# Altium footprint library Connector_Phoenix_MSTB.PcbLib: 180 footprints (part 6 of 12)
Each footprint in its own frame and in the unit in brackets; x right, y up, seen from the top. Pads: shape width x height; smd on the part's side, far side on the other; paste and mask are expansions set on the pad; w line width, h text height; cw(c..) or ccw(c..) is an arc to the next point about the centre after c.
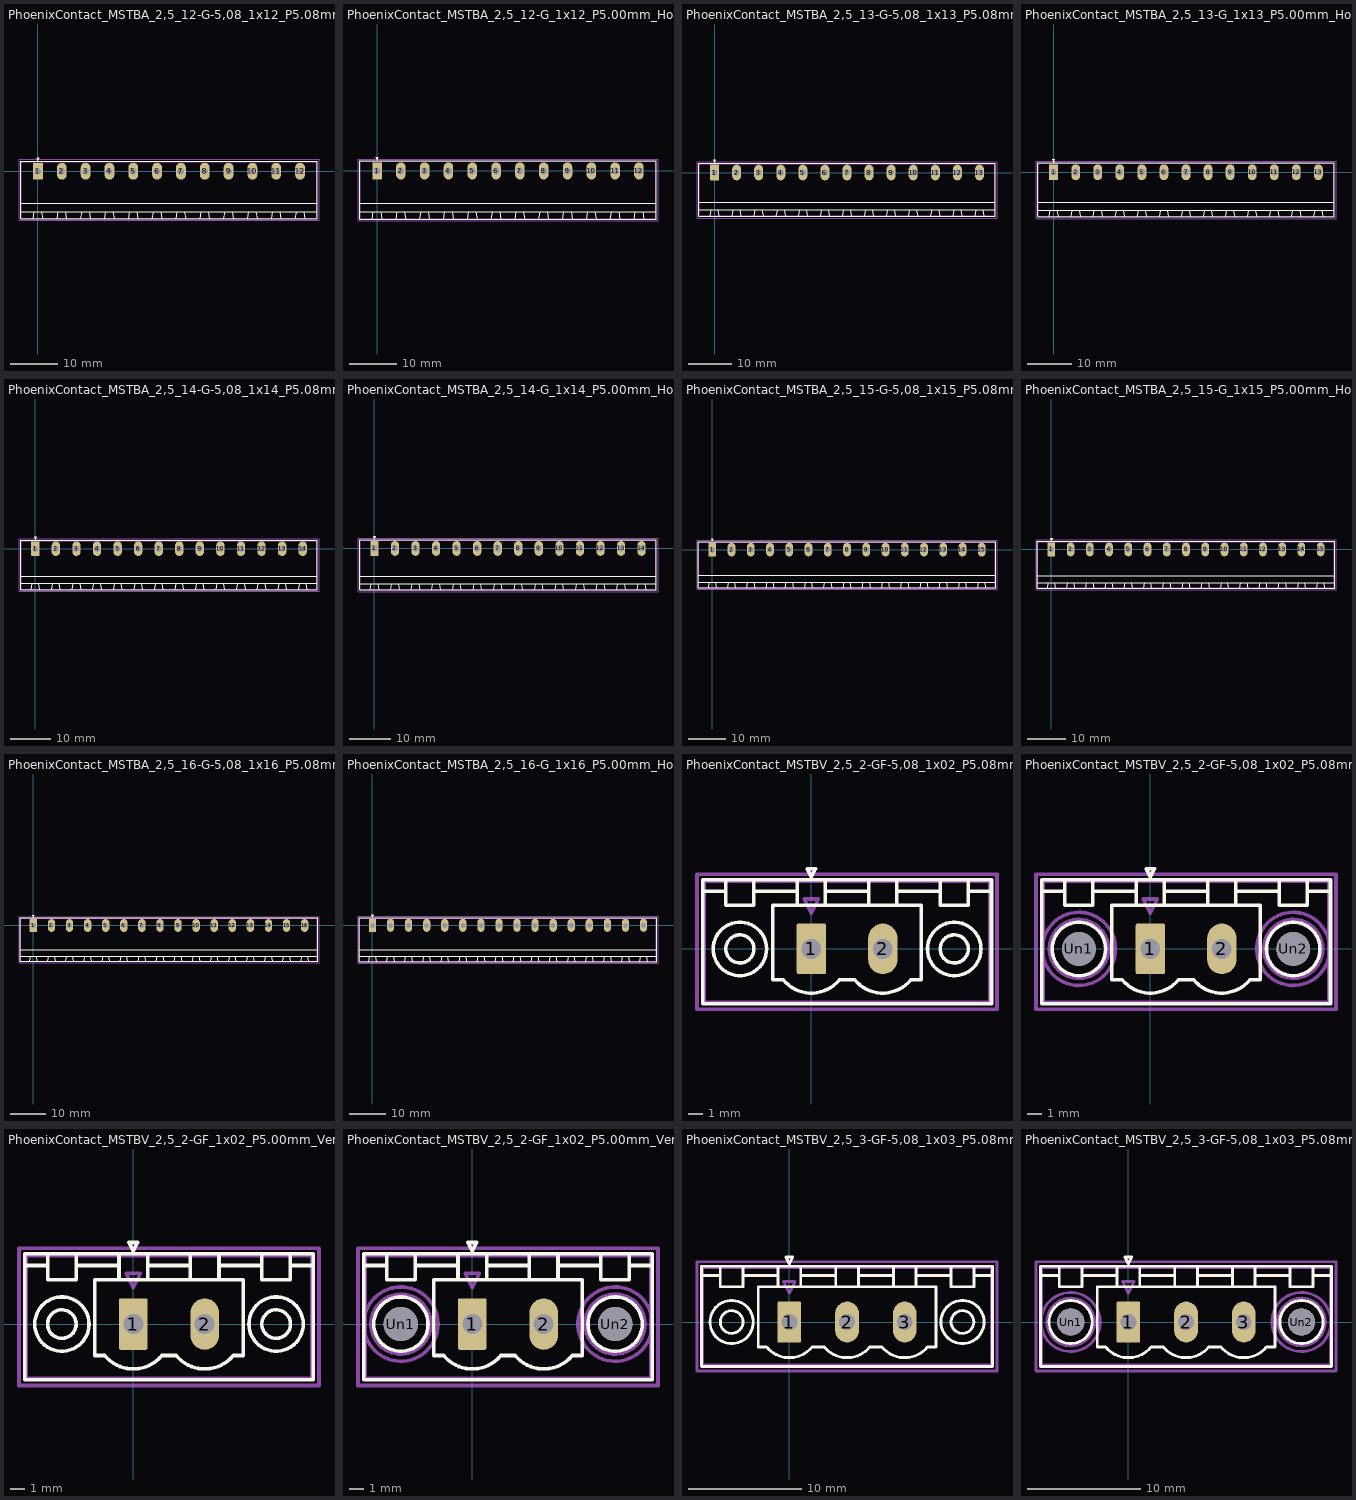
[diagram p5: the footprints below, top view; thin cyan lines are the x and y axes]

## PhoenixContact_MSTBA_2,5_12-G-5,08_1x12_P5.08mm_Horizontal [mm]
pads (12):
  rrect12% 2.08x3.6 hole 1.4: 1(0,0)
  rrect100% 2.08x3.6 hole 1.4: 2(5.08,0) 3(10.16,0) 4(15.24,0) 5(20.32,0) 6(25.4,0) 7(30.48,0) 8(35.56,0) 9(40.64,0) 10(45.72,0) 11(50.8,0) 12(55.88,0)
F.SilkS:
  lines w0.254: -3.65,-10.11 59.53,-10.11 59.53,2.11 -3.65,2.11 -3.65,-10.11 ; -3.65,-8.61 59.53,-8.61 59.53,-6.81 -3.65,-6.81 -3.65,-8.61 ; -1,-10.11 -0.75,-8.61 0.75,-8.61 1,-10.11 -1,-10.11 ; -0.3,2.91 0,2.31 0.3,2.91 -0.3,2.91 ; 4.08,-10.11 4.33,-8.61 5.83,-8.61 6.08,-10.11 4.08,-10.11 ; 9.16,-10.11 9.41,-8.61 10.91,-8.61 11.16,-10.11 9.16,-10.11 ; 14.24,-10.11 14.49,-8.61 15.99,-8.61 16.24,-10.11 14.24,-10.11 ; 19.32,-10.11 19.57,-8.61 21.07,-8.61 21.32,-10.11 19.32,-10.11 ; 24.4,-10.11 24.65,-8.61 26.15,-8.61 26.4,-10.11 24.4,-10.11 ; 29.48,-10.11 29.73,-8.61 31.23,-8.61 31.48,-10.11 29.48,-10.11 ; 34.56,-10.11 34.81,-8.61 36.31,-8.61 36.56,-10.11 34.56,-10.11 ; 39.64,-10.11 39.89,-8.61 41.39,-8.61 41.64,-10.11 39.64,-10.11 ; 44.72,-10.11 44.97,-8.61 46.47,-8.61 46.72,-10.11 44.72,-10.11 ; 49.8,-10.11 50.05,-8.61 51.55,-8.61 51.8,-10.11 49.8,-10.11 ; 54.88,-10.11 55.13,-8.61 56.63,-8.61 56.88,-10.11 54.88,-10.11
Top Assembly:
  lines w0.254: -0.95,2 0,0.5 0.95,2 ; -3.54,-10 59.42,-10 59.42,2 -3.54,2 -3.54,-10
  text "'.Designator'" at 23.893,0.46 h1
Top Courtyard:
  lines w0.254: -4.04,-10.5 59.92,-10.5 59.92,2.5 -4.04,2.5 -4.04,-10.5
Top Designator:
  text ".Designator" at 20.322,-4.303 h1.52

## PhoenixContact_MSTBA_2,5_12-G_1x12_P5.00mm_Horizontal [mm]
pads (12):
  rrect12% 2x3.6 hole 1.4: 1(0,0)
  rrect100% 2x3.6 hole 1.4: 2(5,0) 3(10,0) 4(15,0) 5(20,0) 6(25,0) 7(30,0) 8(35,0) 9(40,0) 10(45,0) 11(50,0) 12(55,0)
F.SilkS:
  lines w0.254: -3.61,-10.11 58.61,-10.11 58.61,2.11 -3.61,2.11 -3.61,-10.11 ; -3.61,-8.61 58.61,-8.61 58.61,-6.81 -3.61,-6.81 -3.61,-8.61 ; -1,-10.11 -0.75,-8.61 0.75,-8.61 1,-10.11 -1,-10.11 ; -0.3,2.91 0,2.31 0.3,2.91 -0.3,2.91 ; 4,-10.11 4.25,-8.61 5.75,-8.61 6,-10.11 4,-10.11 ; 9,-10.11 9.25,-8.61 10.75,-8.61 11,-10.11 9,-10.11 ; 14,-10.11 14.25,-8.61 15.75,-8.61 16,-10.11 14,-10.11 ; 19,-10.11 19.25,-8.61 20.75,-8.61 21,-10.11 19,-10.11 ; 24,-10.11 24.25,-8.61 25.75,-8.61 26,-10.11 24,-10.11 ; 29,-10.11 29.25,-8.61 30.75,-8.61 31,-10.11 29,-10.11 ; 34,-10.11 34.25,-8.61 35.75,-8.61 36,-10.11 34,-10.11 ; 39,-10.11 39.25,-8.61 40.75,-8.61 41,-10.11 39,-10.11 ; 44,-10.11 44.25,-8.61 45.75,-8.61 46,-10.11 44,-10.11 ; 49,-10.11 49.25,-8.61 50.75,-8.61 51,-10.11 49,-10.11 ; 54,-10.11 54.25,-8.61 55.75,-8.61 56,-10.11 54,-10.11
Top Assembly:
  lines w0.254: -0.95,2 0,0.5 0.95,2 ; -3.5,-10 58.5,-10 58.5,2 -3.5,2 -3.5,-10
  text "'.Designator'" at 23.453,0.46 h1
Top Courtyard:
  lines w0.254: -4,-10.5 59,-10.5 59,2.5 -4,2.5 -4,-10.5
Top Designator:
  text ".Designator" at 19.882,-4.303 h1.52

## PhoenixContact_MSTBA_2,5_13-G-5,08_1x13_P5.08mm_Horizontal [mm]
pads (13):
  rrect12% 2.08x3.6 hole 1.4: 1(0,0)
  rrect100% 2.08x3.6 hole 1.4: 2(5.08,0) 3(10.16,0) 4(15.24,0) 5(20.32,0) 6(25.4,0) 7(30.48,0) 8(35.56,0) 9(40.64,0) 10(45.72,0) 11(50.8,0) 12(55.88,0) 13(60.96,0)
F.SilkS:
  lines w0.254: -3.65,-10.11 64.61,-10.11 64.61,2.11 -3.65,2.11 -3.65,-10.11 ; -3.65,-8.61 64.61,-8.61 64.61,-6.81 -3.65,-6.81 -3.65,-8.61 ; -1,-10.11 -0.75,-8.61 0.75,-8.61 1,-10.11 -1,-10.11 ; -0.3,2.91 0,2.31 0.3,2.91 -0.3,2.91 ; 4.08,-10.11 4.33,-8.61 5.83,-8.61 6.08,-10.11 4.08,-10.11 ; 9.16,-10.11 9.41,-8.61 10.91,-8.61 11.16,-10.11 9.16,-10.11 ; 14.24,-10.11 14.49,-8.61 15.99,-8.61 16.24,-10.11 14.24,-10.11 ; 19.32,-10.11 19.57,-8.61 21.07,-8.61 21.32,-10.11 19.32,-10.11 ; 24.4,-10.11 24.65,-8.61 26.15,-8.61 26.4,-10.11 24.4,-10.11 ; 29.48,-10.11 29.73,-8.61 31.23,-8.61 31.48,-10.11 29.48,-10.11 ; 34.56,-10.11 34.81,-8.61 36.31,-8.61 36.56,-10.11 34.56,-10.11 ; 39.64,-10.11 39.89,-8.61 41.39,-8.61 41.64,-10.11 39.64,-10.11 ; 44.72,-10.11 44.97,-8.61 46.47,-8.61 46.72,-10.11 44.72,-10.11 ; 49.8,-10.11 50.05,-8.61 51.55,-8.61 51.8,-10.11 49.8,-10.11 ; 54.88,-10.11 55.13,-8.61 56.63,-8.61 56.88,-10.11 54.88,-10.11 ; 59.96,-10.11 60.21,-8.61 61.71,-8.61 61.96,-10.11 59.96,-10.11
Top Assembly:
  lines w0.254: -0.95,2 0,0.5 0.95,2 ; -3.54,-10 64.5,-10 64.5,2 -3.54,2 -3.54,-10
  text "'.Designator'" at 26.433,0.46 h1
Top Courtyard:
  lines w0.254: -4.04,-10.5 65,-10.5 65,2.5 -4.04,2.5 -4.04,-10.5
Top Designator:
  text ".Designator" at 22.862,-4.303 h1.52

## PhoenixContact_MSTBA_2,5_13-G_1x13_P5.00mm_Horizontal [mm]
pads (13):
  rrect12% 2x3.6 hole 1.4: 1(0,0)
  rrect100% 2x3.6 hole 1.4: 2(5,0) 3(10,0) 4(15,0) 5(20,0) 6(25,0) 7(30,0) 8(35,0) 9(40,0) 10(45,0) 11(50,0) 12(55,0) 13(60,0)
F.SilkS:
  lines w0.254: -3.61,-10.11 63.61,-10.11 63.61,2.11 -3.61,2.11 -3.61,-10.11 ; -3.61,-8.61 63.61,-8.61 63.61,-6.81 -3.61,-6.81 -3.61,-8.61 ; -1,-10.11 -0.75,-8.61 0.75,-8.61 1,-10.11 -1,-10.11 ; -0.3,2.91 0,2.31 0.3,2.91 -0.3,2.91 ; 4,-10.11 4.25,-8.61 5.75,-8.61 6,-10.11 4,-10.11 ; 9,-10.11 9.25,-8.61 10.75,-8.61 11,-10.11 9,-10.11 ; 14,-10.11 14.25,-8.61 15.75,-8.61 16,-10.11 14,-10.11 ; 19,-10.11 19.25,-8.61 20.75,-8.61 21,-10.11 19,-10.11 ; 24,-10.11 24.25,-8.61 25.75,-8.61 26,-10.11 24,-10.11 ; 29,-10.11 29.25,-8.61 30.75,-8.61 31,-10.11 29,-10.11 ; 34,-10.11 34.25,-8.61 35.75,-8.61 36,-10.11 34,-10.11 ; 39,-10.11 39.25,-8.61 40.75,-8.61 41,-10.11 39,-10.11 ; 44,-10.11 44.25,-8.61 45.75,-8.61 46,-10.11 44,-10.11 ; 49,-10.11 49.25,-8.61 50.75,-8.61 51,-10.11 49,-10.11 ; 54,-10.11 54.25,-8.61 55.75,-8.61 56,-10.11 54,-10.11 ; 59,-10.11 59.25,-8.61 60.75,-8.61 61,-10.11 59,-10.11
Top Assembly:
  lines w0.254: -0.95,2 0,0.5 0.95,2 ; -3.5,-10 63.5,-10 63.5,2 -3.5,2 -3.5,-10
  text "'.Designator'" at 25.953,0.46 h1
Top Courtyard:
  lines w0.254: -4,-10.5 64,-10.5 64,2.5 -4,2.5 -4,-10.5
Top Designator:
  text ".Designator" at 22.382,-4.303 h1.52

## PhoenixContact_MSTBA_2,5_14-G-5,08_1x14_P5.08mm_Horizontal [mm]
pads (14):
  rrect12% 2.08x3.6 hole 1.4: 1(0,0)
  rrect100% 2.08x3.6 hole 1.4: 2(5.08,0) 3(10.16,0) 4(15.24,0) 5(20.32,0) 6(25.4,0) 7(30.48,0) 8(35.56,0) 9(40.64,0) 10(45.72,0) 11(50.8,0) 12(55.88,0) 13(60.96,0) 14(66.04,0)
F.SilkS:
  lines w0.254: -3.65,-10.11 69.69,-10.11 69.69,2.11 -3.65,2.11 -3.65,-10.11 ; -3.65,-8.61 69.69,-8.61 69.69,-6.81 -3.65,-6.81 -3.65,-8.61 ; -1,-10.11 -0.75,-8.61 0.75,-8.61 1,-10.11 -1,-10.11 ; -0.3,2.91 0,2.31 0.3,2.91 -0.3,2.91 ; 4.08,-10.11 4.33,-8.61 5.83,-8.61 6.08,-10.11 4.08,-10.11 ; 9.16,-10.11 9.41,-8.61 10.91,-8.61 11.16,-10.11 9.16,-10.11 ; 14.24,-10.11 14.49,-8.61 15.99,-8.61 16.24,-10.11 14.24,-10.11 ; 19.32,-10.11 19.57,-8.61 21.07,-8.61 21.32,-10.11 19.32,-10.11 ; 24.4,-10.11 24.65,-8.61 26.15,-8.61 26.4,-10.11 24.4,-10.11 ; 29.48,-10.11 29.73,-8.61 31.23,-8.61 31.48,-10.11 29.48,-10.11 ; 34.56,-10.11 34.81,-8.61 36.31,-8.61 36.56,-10.11 34.56,-10.11 ; 39.64,-10.11 39.89,-8.61 41.39,-8.61 41.64,-10.11 39.64,-10.11 ; 44.72,-10.11 44.97,-8.61 46.47,-8.61 46.72,-10.11 44.72,-10.11 ; 49.8,-10.11 50.05,-8.61 51.55,-8.61 51.8,-10.11 49.8,-10.11 ; 54.88,-10.11 55.13,-8.61 56.63,-8.61 56.88,-10.11 54.88,-10.11 ; 59.96,-10.11 60.21,-8.61 61.71,-8.61 61.96,-10.11 59.96,-10.11 ; 65.04,-10.11 65.29,-8.61 66.79,-8.61 67.04,-10.11 65.04,-10.11
Top Assembly:
  lines w0.254: -0.95,2 0,0.5 0.95,2 ; -3.54,-10 69.58,-10 69.58,2 -3.54,2 -3.54,-10
  text "'.Designator'" at 28.973,0.46 h1
Top Courtyard:
  lines w0.254: -4.04,-10.5 70.08,-10.5 70.08,2.5 -4.04,2.5 -4.04,-10.5
Top Designator:
  text ".Designator" at 25.402,-4.303 h1.52

## PhoenixContact_MSTBA_2,5_14-G_1x14_P5.00mm_Horizontal [mm]
pads (14):
  rrect12% 2x3.6 hole 1.4: 1(0,0)
  rrect100% 2x3.6 hole 1.4: 2(5,0) 3(10,0) 4(15,0) 5(20,0) 6(25,0) 7(30,0) 8(35,0) 9(40,0) 10(45,0) 11(50,0) 12(55,0) 13(60,0) 14(65,0)
F.SilkS:
  lines w0.254: -3.61,-10.11 68.61,-10.11 68.61,2.11 -3.61,2.11 -3.61,-10.11 ; -3.61,-8.61 68.61,-8.61 68.61,-6.81 -3.61,-6.81 -3.61,-8.61 ; -1,-10.11 -0.75,-8.61 0.75,-8.61 1,-10.11 -1,-10.11 ; -0.3,2.91 0,2.31 0.3,2.91 -0.3,2.91 ; 4,-10.11 4.25,-8.61 5.75,-8.61 6,-10.11 4,-10.11 ; 9,-10.11 9.25,-8.61 10.75,-8.61 11,-10.11 9,-10.11 ; 14,-10.11 14.25,-8.61 15.75,-8.61 16,-10.11 14,-10.11 ; 19,-10.11 19.25,-8.61 20.75,-8.61 21,-10.11 19,-10.11 ; 24,-10.11 24.25,-8.61 25.75,-8.61 26,-10.11 24,-10.11 ; 29,-10.11 29.25,-8.61 30.75,-8.61 31,-10.11 29,-10.11 ; 34,-10.11 34.25,-8.61 35.75,-8.61 36,-10.11 34,-10.11 ; 39,-10.11 39.25,-8.61 40.75,-8.61 41,-10.11 39,-10.11 ; 44,-10.11 44.25,-8.61 45.75,-8.61 46,-10.11 44,-10.11 ; 49,-10.11 49.25,-8.61 50.75,-8.61 51,-10.11 49,-10.11 ; 54,-10.11 54.25,-8.61 55.75,-8.61 56,-10.11 54,-10.11 ; 59,-10.11 59.25,-8.61 60.75,-8.61 61,-10.11 59,-10.11 ; 64,-10.11 64.25,-8.61 65.75,-8.61 66,-10.11 64,-10.11
Top Assembly:
  lines w0.254: -0.95,2 0,0.5 0.95,2 ; -3.5,-10 68.5,-10 68.5,2 -3.5,2 -3.5,-10
  text "'.Designator'" at 28.453,0.46 h1
Top Courtyard:
  lines w0.254: -4,-10.5 69,-10.5 69,2.5 -4,2.5 -4,-10.5
Top Designator:
  text ".Designator" at 24.882,-4.303 h1.52

## PhoenixContact_MSTBA_2,5_15-G-5,08_1x15_P5.08mm_Horizontal [mm]
pads (15):
  rrect12% 2.08x3.6 hole 1.4: 1(0,0)
  rrect100% 2.08x3.6 hole 1.4: 2(5.08,0) 3(10.16,0) 4(15.24,0) 5(20.32,0) 6(25.4,0) 7(30.48,0) 8(35.56,0) 9(40.64,0) 10(45.72,0) 11(50.8,0) 12(55.88,0) 13(60.96,0) 14(66.04,0) 15(71.12,0)
F.SilkS:
  lines w0.254: -3.65,-10.11 74.77,-10.11 74.77,2.11 -3.65,2.11 -3.65,-10.11 ; -3.65,-8.61 74.77,-8.61 74.77,-6.81 -3.65,-6.81 -3.65,-8.61 ; -1,-10.11 -0.75,-8.61 0.75,-8.61 1,-10.11 -1,-10.11 ; -0.3,2.91 0,2.31 0.3,2.91 -0.3,2.91 ; 4.08,-10.11 4.33,-8.61 5.83,-8.61 6.08,-10.11 4.08,-10.11 ; 9.16,-10.11 9.41,-8.61 10.91,-8.61 11.16,-10.11 9.16,-10.11 ; 14.24,-10.11 14.49,-8.61 15.99,-8.61 16.24,-10.11 14.24,-10.11 ; 19.32,-10.11 19.57,-8.61 21.07,-8.61 21.32,-10.11 19.32,-10.11 ; 24.4,-10.11 24.65,-8.61 26.15,-8.61 26.4,-10.11 24.4,-10.11 ; 29.48,-10.11 29.73,-8.61 31.23,-8.61 31.48,-10.11 29.48,-10.11 ; 34.56,-10.11 34.81,-8.61 36.31,-8.61 36.56,-10.11 34.56,-10.11 ; 39.64,-10.11 39.89,-8.61 41.39,-8.61 41.64,-10.11 39.64,-10.11 ; 44.72,-10.11 44.97,-8.61 46.47,-8.61 46.72,-10.11 44.72,-10.11 ; 49.8,-10.11 50.05,-8.61 51.55,-8.61 51.8,-10.11 49.8,-10.11 ; 54.88,-10.11 55.13,-8.61 56.63,-8.61 56.88,-10.11 54.88,-10.11 ; 59.96,-10.11 60.21,-8.61 61.71,-8.61 61.96,-10.11 59.96,-10.11 ; 65.04,-10.11 65.29,-8.61 66.79,-8.61 67.04,-10.11 65.04,-10.11 ; 70.12,-10.11 70.37,-8.61 71.87,-8.61 72.12,-10.11 70.12,-10.11
Top Assembly:
  lines w0.254: -0.95,2 0,0.5 0.95,2 ; -3.54,-10 74.66,-10 74.66,2 -3.54,2 -3.54,-10
  text "'.Designator'" at 31.513,0.46 h1
Top Courtyard:
  lines w0.254: -4.04,-10.5 75.16,-10.5 75.16,2.5 -4.04,2.5 -4.04,-10.5
Top Designator:
  text ".Designator" at 27.942,-4.303 h1.52

## PhoenixContact_MSTBA_2,5_15-G_1x15_P5.00mm_Horizontal [mm]
pads (15):
  rrect12% 2x3.6 hole 1.4: 1(0,0)
  rrect100% 2x3.6 hole 1.4: 2(5,0) 3(10,0) 4(15,0) 5(20,0) 6(25,0) 7(30,0) 8(35,0) 9(40,0) 10(45,0) 11(50,0) 12(55,0) 13(60,0) 14(65,0) 15(70,0)
F.SilkS:
  lines w0.254: -3.61,-10.11 73.61,-10.11 73.61,2.11 -3.61,2.11 -3.61,-10.11 ; -3.61,-8.61 73.61,-8.61 73.61,-6.81 -3.61,-6.81 -3.61,-8.61 ; -1,-10.11 -0.75,-8.61 0.75,-8.61 1,-10.11 -1,-10.11 ; -0.3,2.91 0,2.31 0.3,2.91 -0.3,2.91 ; 4,-10.11 4.25,-8.61 5.75,-8.61 6,-10.11 4,-10.11 ; 9,-10.11 9.25,-8.61 10.75,-8.61 11,-10.11 9,-10.11 ; 14,-10.11 14.25,-8.61 15.75,-8.61 16,-10.11 14,-10.11 ; 19,-10.11 19.25,-8.61 20.75,-8.61 21,-10.11 19,-10.11 ; 24,-10.11 24.25,-8.61 25.75,-8.61 26,-10.11 24,-10.11 ; 29,-10.11 29.25,-8.61 30.75,-8.61 31,-10.11 29,-10.11 ; 34,-10.11 34.25,-8.61 35.75,-8.61 36,-10.11 34,-10.11 ; 39,-10.11 39.25,-8.61 40.75,-8.61 41,-10.11 39,-10.11 ; 44,-10.11 44.25,-8.61 45.75,-8.61 46,-10.11 44,-10.11 ; 49,-10.11 49.25,-8.61 50.75,-8.61 51,-10.11 49,-10.11 ; 54,-10.11 54.25,-8.61 55.75,-8.61 56,-10.11 54,-10.11 ; 59,-10.11 59.25,-8.61 60.75,-8.61 61,-10.11 59,-10.11 ; 64,-10.11 64.25,-8.61 65.75,-8.61 66,-10.11 64,-10.11 ; 69,-10.11 69.25,-8.61 70.75,-8.61 71,-10.11 69,-10.11
Top Assembly:
  lines w0.254: -0.95,2 0,0.5 0.95,2 ; -3.5,-10 73.5,-10 73.5,2 -3.5,2 -3.5,-10
  text "'.Designator'" at 30.953,0.46 h1
Top Courtyard:
  lines w0.254: -4,-10.5 74,-10.5 74,2.5 -4,2.5 -4,-10.5
Top Designator:
  text ".Designator" at 27.382,-4.303 h1.52

## PhoenixContact_MSTBA_2,5_16-G-5,08_1x16_P5.08mm_Horizontal [mm]
pads (16):
  rrect12% 2.08x3.6 hole 1.4: 1(0,0)
  rrect100% 2.08x3.6 hole 1.4: 2(5.08,0) 3(10.16,0) 4(15.24,0) 5(20.32,0) 6(25.4,0) 7(30.48,0) 8(35.56,0) 9(40.64,0) 10(45.72,0) 11(50.8,0) 12(55.88,0) 13(60.96,0) 14(66.04,0) 15(71.12,0) 16(76.2,0)
F.SilkS:
  lines w0.254: -3.65,-10.11 79.85,-10.11 79.85,2.11 -3.65,2.11 -3.65,-10.11 ; -3.65,-8.61 79.85,-8.61 79.85,-6.81 -3.65,-6.81 -3.65,-8.61 ; -1,-10.11 -0.75,-8.61 0.75,-8.61 1,-10.11 -1,-10.11 ; -0.3,2.91 0,2.31 0.3,2.91 -0.3,2.91 ; 4.08,-10.11 4.33,-8.61 5.83,-8.61 6.08,-10.11 4.08,-10.11 ; 9.16,-10.11 9.41,-8.61 10.91,-8.61 11.16,-10.11 9.16,-10.11 ; 14.24,-10.11 14.49,-8.61 15.99,-8.61 16.24,-10.11 14.24,-10.11 ; 19.32,-10.11 19.57,-8.61 21.07,-8.61 21.32,-10.11 19.32,-10.11 ; 24.4,-10.11 24.65,-8.61 26.15,-8.61 26.4,-10.11 24.4,-10.11 ; 29.48,-10.11 29.73,-8.61 31.23,-8.61 31.48,-10.11 29.48,-10.11 ; 34.56,-10.11 34.81,-8.61 36.31,-8.61 36.56,-10.11 34.56,-10.11 ; 39.64,-10.11 39.89,-8.61 41.39,-8.61 41.64,-10.11 39.64,-10.11 ; 44.72,-10.11 44.97,-8.61 46.47,-8.61 46.72,-10.11 44.72,-10.11 ; 49.8,-10.11 50.05,-8.61 51.55,-8.61 51.8,-10.11 49.8,-10.11 ; 54.88,-10.11 55.13,-8.61 56.63,-8.61 56.88,-10.11 54.88,-10.11 ; 59.96,-10.11 60.21,-8.61 61.71,-8.61 61.96,-10.11 59.96,-10.11 ; 65.04,-10.11 65.29,-8.61 66.79,-8.61 67.04,-10.11 65.04,-10.11 ; 70.12,-10.11 70.37,-8.61 71.87,-8.61 72.12,-10.11 70.12,-10.11 ; 75.2,-10.11 75.45,-8.61 76.95,-8.61 77.2,-10.11 75.2,-10.11
Top Assembly:
  lines w0.254: -0.95,2 0,0.5 0.95,2 ; -3.54,-10 79.74,-10 79.74,2 -3.54,2 -3.54,-10
  text "'.Designator'" at 34.053,0.46 h1
Top Courtyard:
  lines w0.254: -4.04,-10.5 80.24,-10.5 80.24,2.5 -4.04,2.5 -4.04,-10.5
Top Designator:
  text ".Designator" at 30.482,-4.303 h1.52

## PhoenixContact_MSTBA_2,5_16-G_1x16_P5.00mm_Horizontal [mm]
pads (16):
  rrect12% 2x3.6 hole 1.4: 1(0,0)
  rrect100% 2x3.6 hole 1.4: 2(5,0) 3(10,0) 4(15,0) 5(20,0) 6(25,0) 7(30,0) 8(35,0) 9(40,0) 10(45,0) 11(50,0) 12(55,0) 13(60,0) 14(65,0) 15(70,0) 16(75,0)
F.SilkS:
  lines w0.254: -3.61,-10.11 78.61,-10.11 78.61,2.11 -3.61,2.11 -3.61,-10.11 ; -3.61,-8.61 78.61,-8.61 78.61,-6.81 -3.61,-6.81 -3.61,-8.61 ; -1,-10.11 -0.75,-8.61 0.75,-8.61 1,-10.11 -1,-10.11 ; -0.3,2.91 0,2.31 0.3,2.91 -0.3,2.91 ; 4,-10.11 4.25,-8.61 5.75,-8.61 6,-10.11 4,-10.11 ; 9,-10.11 9.25,-8.61 10.75,-8.61 11,-10.11 9,-10.11 ; 14,-10.11 14.25,-8.61 15.75,-8.61 16,-10.11 14,-10.11 ; 19,-10.11 19.25,-8.61 20.75,-8.61 21,-10.11 19,-10.11 ; 24,-10.11 24.25,-8.61 25.75,-8.61 26,-10.11 24,-10.11 ; 29,-10.11 29.25,-8.61 30.75,-8.61 31,-10.11 29,-10.11 ; 34,-10.11 34.25,-8.61 35.75,-8.61 36,-10.11 34,-10.11 ; 39,-10.11 39.25,-8.61 40.75,-8.61 41,-10.11 39,-10.11 ; 44,-10.11 44.25,-8.61 45.75,-8.61 46,-10.11 44,-10.11 ; 49,-10.11 49.25,-8.61 50.75,-8.61 51,-10.11 49,-10.11 ; 54,-10.11 54.25,-8.61 55.75,-8.61 56,-10.11 54,-10.11 ; 59,-10.11 59.25,-8.61 60.75,-8.61 61,-10.11 59,-10.11 ; 64,-10.11 64.25,-8.61 65.75,-8.61 66,-10.11 64,-10.11 ; 69,-10.11 69.25,-8.61 70.75,-8.61 71,-10.11 69,-10.11 ; 74,-10.11 74.25,-8.61 75.75,-8.61 76,-10.11 74,-10.11
Top Assembly:
  lines w0.254: -0.95,2 0,0.5 0.95,2 ; -3.5,-10 78.5,-10 78.5,2 -3.5,2 -3.5,-10
  text "'.Designator'" at 33.453,0.46 h1
Top Courtyard:
  lines w0.254: -4,-10.5 79,-10.5 79,2.5 -4,2.5 -4,-10.5
Top Designator:
  text ".Designator" at 29.882,-4.303 h1.52

## PhoenixContact_MSTBV_2,5_2-GF-5,08_1x02_P5.08mm_Vertical_ThreadedFlange [mm]
pads (2):
  rrect12% 2.08x3.6 hole 1.4: 1(0,0)
  rrect100% 2.08x3.6 hole 1.4: 2(5.08,0)
F.SilkS:
  circle w0.254: c10.16,0 r1.9
  circle w0.254: c10.16,0 r1
  circle w0.254: c-5.08,0 r1.9
  circle w0.254: c-5.08,0 r1
  lines w0.254: -7.73,4.1 -6.19,4.1 ; -4.08,4.1 -1,4.1 ; 1,4.1 4.08,4.1 ; 1.987,-2.216 cw(c0,-0.55) -2,-2.2 -2.74,-2.2 -2.74,3.1 7.82,3.1 7.82,-2.2 7.08,-2.2 ; 2,-2.2 3.08,-2.2 ccw(c5.08,-0.55) 7.067,-2.216 ; 6.08,4.1 9.16,4.1 ; 11.27,4.1 12.81,4.1 ; -7.73,-3.91 12.81,-3.91 12.81,4.91 -7.73,4.91 -7.73,-3.91 ; -6.08,3.1 -4.08,3.1 -4.08,4.91 -6.08,4.91 -6.08,3.1 ; -1,3.1 1,3.1 1,4.91 -1,4.91 -1,3.1 ; -0.3,5.71 0,5.11 0.3,5.71 -0.3,5.71 ; 4.08,3.1 6.08,3.1 6.08,4.91 4.08,4.91 4.08,3.1 ; 9.16,3.1 11.16,3.1 11.16,4.91 9.16,4.91 9.16,3.1
Top Assembly:
  lines w0.254: -7.62,-3.8 12.7,-3.8 12.7,4.8 -7.62,4.8 -7.62,-3.8 ; -0.5,3.55 0,2.55 0.5,3.55 -0.5,3.55
  text "'.Designator'" at -1.507,3.26 h1
Top Courtyard:
  lines w0.254: -8.13,-4.3 13.2,-4.3 13.2,5.3 -8.13,5.3 -8.13,-4.3
Top Designator:
  text ".Designator" at -5.083,0.197 h1.52

## PhoenixContact_MSTBV_2,5_2-GF-5,08_1x02_P5.08mm_Vertical_ThreadedFlange_MountHole [mm]
pads (4):
  rrect12% 2.08x3.6 hole 1.4: 1(0,0)
  rrect100% 2.08x3.6 hole 1.4: 2(5.08,0)
  round 2.4 hole 2.4: Un1(-5.08,0) Un2(10.16,0)
F.SilkS:
  circle w0.254: c10.16,0 r1.9
  circle w0.254: c-5.08,0 r1.9
  lines w0.254: -7.73,4.1 -6.19,4.1 ; -4.08,4.1 -1,4.1 ; 1,4.1 4.08,4.1 ; 1.987,-2.216 cw(c0,-0.55) -2,-2.2 -2.74,-2.2 -2.74,3.1 7.82,3.1 7.82,-2.2 7.08,-2.2 ; 2,-2.2 3.08,-2.2 ccw(c5.08,-0.55) 7.067,-2.216 ; 6.08,4.1 9.16,4.1 ; 11.27,4.1 12.81,4.1 ; -7.73,-3.91 12.81,-3.91 12.81,4.91 -7.73,4.91 -7.73,-3.91 ; -6.08,3.1 -4.08,3.1 -4.08,4.91 -6.08,4.91 -6.08,3.1 ; -1,3.1 1,3.1 1,4.91 -1,4.91 -1,3.1 ; -0.3,5.71 0,5.11 0.3,5.71 -0.3,5.71 ; 4.08,3.1 6.08,3.1 6.08,4.91 4.08,4.91 4.08,3.1 ; 9.16,3.1 11.16,3.1 11.16,4.91 9.16,4.91 9.16,3.1
B.SilkS:
  circle w0.254: c10.16,0 r2.21
  circle w0.254: c-5.08,0 r2.21
Top Assembly:
  lines w0.254: -7.62,-3.8 12.7,-3.8 12.7,4.8 -7.62,4.8 -7.62,-3.8 ; -0.5,3.55 0,2.55 0.5,3.55 -0.5,3.55
  text "'.Designator'" at -1.507,3.26 h1
Bottom Assembly:
  circle w0.254: c10.16,0 r2.1
  circle w0.254: c-5.08,0 r2.1
Top Courtyard:
  lines w0.254: -8.13,-4.3 13.2,-4.3 13.2,5.3 -8.13,5.3 -8.13,-4.3
Bottom Courtyard:
  circle w0.254: c10.16,0 r2.6
  circle w0.254: c-5.08,0 r2.6
Top Designator:
  text ".Designator" at -5.083,0.197 h1.52

## PhoenixContact_MSTBV_2,5_2-GF_1x02_P5.00mm_Vertical_ThreadedFlange [mm]
pads (2):
  rrect12% 2x3.6 hole 1.4: 1(0,0)
  rrect100% 2x3.6 hole 1.4: 2(5,0)
F.SilkS:
  circle w0.254: c10,0 r1.9
  circle w0.254: c10,0 r1
  circle w0.254: c-5,0 r1.9
  circle w0.254: c-5,0 r1
  lines w0.254: -7.61,4.1 -6.11,4.1 ; -4,4.1 -1,4.1 ; 1,4.1 4,4.1 ; 1.987,-2.216 cw(c0,-0.55) -2,-2.2 -2.7,-2.2 -2.7,3.1 7.7,3.1 7.7,-2.2 7,-2.2 ; 2,-2.2 3,-2.2 ccw(c5,-0.55) 6.987,-2.216 ; 6,4.1 9,4.1 ; 11.11,4.1 12.61,4.1 ; -7.61,-3.91 12.61,-3.91 12.61,4.91 -7.61,4.91 -7.61,-3.91 ; -6,3.1 -4,3.1 -4,4.91 -6,4.91 -6,3.1 ; -1,3.1 1,3.1 1,4.91 -1,4.91 -1,3.1 ; -0.3,5.71 0,5.11 0.3,5.71 -0.3,5.71 ; 4,3.1 6,3.1 6,4.91 4,4.91 4,3.1 ; 9,3.1 11,3.1 11,4.91 9,4.91 9,3.1
Top Assembly:
  lines w0.254: -7.5,-3.8 12.5,-3.8 12.5,4.8 -7.5,4.8 -7.5,-3.8 ; -0.5,3.55 0,2.55 0.5,3.55 -0.5,3.55
  text "'.Designator'" at -1.547,3.26 h1
Top Courtyard:
  lines w0.254: -8,-4.3 13,-4.3 13,5.3 -8,5.3 -8,-4.3
Top Designator:
  text ".Designator" at -5.118,0.197 h1.52

## PhoenixContact_MSTBV_2,5_2-GF_1x02_P5.00mm_Vertical_ThreadedFlange_MountHole [mm]
pads (4):
  rrect12% 2x3.6 hole 1.4: 1(0,0)
  rrect100% 2x3.6 hole 1.4: 2(5,0)
  round 2.4 hole 2.4: Un1(-5,0) Un2(10,0)
F.SilkS:
  circle w0.254: c10,0 r1.9
  circle w0.254: c-5,0 r1.9
  lines w0.254: -7.61,4.1 -6.11,4.1 ; -4,4.1 -1,4.1 ; 1,4.1 4,4.1 ; 1.987,-2.216 cw(c0,-0.55) -2,-2.2 -2.7,-2.2 -2.7,3.1 7.7,3.1 7.7,-2.2 7,-2.2 ; 2,-2.2 3,-2.2 ccw(c5,-0.55) 6.987,-2.216 ; 6,4.1 9,4.1 ; 11.11,4.1 12.61,4.1 ; -7.61,-3.91 12.61,-3.91 12.61,4.91 -7.61,4.91 -7.61,-3.91 ; -6,3.1 -4,3.1 -4,4.91 -6,4.91 -6,3.1 ; -1,3.1 1,3.1 1,4.91 -1,4.91 -1,3.1 ; -0.3,5.71 0,5.11 0.3,5.71 -0.3,5.71 ; 4,3.1 6,3.1 6,4.91 4,4.91 4,3.1 ; 9,3.1 11,3.1 11,4.91 9,4.91 9,3.1
B.SilkS:
  circle w0.254: c10,0 r2.21
  circle w0.254: c-5,0 r2.21
Top Assembly:
  lines w0.254: -7.5,-3.8 12.5,-3.8 12.5,4.8 -7.5,4.8 -7.5,-3.8 ; -0.5,3.55 0,2.55 0.5,3.55 -0.5,3.55
  text "'.Designator'" at -1.547,3.26 h1
Bottom Assembly:
  circle w0.254: c10,0 r2.1
  circle w0.254: c-5,0 r2.1
Top Courtyard:
  lines w0.254: -8,-4.3 13,-4.3 13,5.3 -8,5.3 -8,-4.3
Bottom Courtyard:
  circle w0.254: c10,0 r2.6
  circle w0.254: c-5,0 r2.6
Top Designator:
  text ".Designator" at -5.118,0.197 h1.52

## PhoenixContact_MSTBV_2,5_3-GF-5,08_1x03_P5.08mm_Vertical_ThreadedFlange [mm]
pads (3):
  rrect12% 2.08x3.6 hole 1.4: 1(0,0)
  rrect100% 2.08x3.6 hole 1.4: 2(5.08,0) 3(10.16,0)
F.SilkS:
  circle w0.254: c15.24,0 r1.9
  circle w0.254: c15.24,0 r1
  circle w0.254: c-5.08,0 r1.9
  circle w0.254: c-5.08,0 r1
  lines w0.254: -7.73,4.1 -6.19,4.1 ; -4.08,4.1 -1,4.1 ; 1,4.1 4.08,4.1 ; 1.987,-2.216 cw(c0,-0.55) -2,-2.2 -2.74,-2.2 -2.74,3.1 12.9,3.1 12.9,-2.2 12.16,-2.2 ; 2,-2.2 3.08,-2.2 ccw(c5.08,-0.55) 7.067,-2.216 ; 6.08,4.1 9.16,4.1 ; 7.08,-2.2 8.16,-2.2 ccw(c10.16,-0.55) 12.147,-2.216 ; 11.16,4.1 14.24,4.1 ; 16.35,4.1 17.89,4.1 ; -7.73,-3.91 17.89,-3.91 17.89,4.91 -7.73,4.91 -7.73,-3.91 ; -6.08,3.1 -4.08,3.1 -4.08,4.91 -6.08,4.91 -6.08,3.1 ; -1,3.1 1,3.1 1,4.91 -1,4.91 -1,3.1 ; -0.3,5.71 0,5.11 0.3,5.71 -0.3,5.71 ; 4.08,3.1 6.08,3.1 6.08,4.91 4.08,4.91 4.08,3.1 ; 9.16,3.1 11.16,3.1 11.16,4.91 9.16,4.91 9.16,3.1 ; 14.24,3.1 16.24,3.1 16.24,4.91 14.24,4.91 14.24,3.1
Top Assembly:
  lines w0.254: -7.62,-3.8 17.78,-3.8 17.78,4.8 -7.62,4.8 -7.62,-3.8 ; -0.5,3.55 0,2.55 0.5,3.55 -0.5,3.55
  text "'.Designator'" at 1.033,3.26 h1
Top Courtyard:
  lines w0.254: -8.13,-4.3 18.28,-4.3 18.28,5.3 -8.13,5.3 -8.13,-4.3
Top Designator:
  text ".Designator" at -2.543,0.197 h1.52

## PhoenixContact_MSTBV_2,5_3-GF-5,08_1x03_P5.08mm_Vertical_ThreadedFlange_MountHole [mm]
pads (5):
  rrect12% 2.08x3.6 hole 1.4: 1(0,0)
  rrect100% 2.08x3.6 hole 1.4: 2(5.08,0) 3(10.16,0)
  round 2.4 hole 2.4: Un1(-5.08,0) Un2(15.24,0)
F.SilkS:
  circle w0.254: c15.24,0 r1.9
  circle w0.254: c-5.08,0 r1.9
  lines w0.254: -7.73,4.1 -6.19,4.1 ; -4.08,4.1 -1,4.1 ; 1,4.1 4.08,4.1 ; 1.987,-2.216 cw(c0,-0.55) -2,-2.2 -2.74,-2.2 -2.74,3.1 12.9,3.1 12.9,-2.2 12.16,-2.2 ; 2,-2.2 3.08,-2.2 ccw(c5.08,-0.55) 7.067,-2.216 ; 6.08,4.1 9.16,4.1 ; 7.08,-2.2 8.16,-2.2 ccw(c10.16,-0.55) 12.147,-2.216 ; 11.16,4.1 14.24,4.1 ; 16.35,4.1 17.89,4.1 ; -7.73,-3.91 17.89,-3.91 17.89,4.91 -7.73,4.91 -7.73,-3.91 ; -6.08,3.1 -4.08,3.1 -4.08,4.91 -6.08,4.91 -6.08,3.1 ; -1,3.1 1,3.1 1,4.91 -1,4.91 -1,3.1 ; -0.3,5.71 0,5.11 0.3,5.71 -0.3,5.71 ; 4.08,3.1 6.08,3.1 6.08,4.91 4.08,4.91 4.08,3.1 ; 9.16,3.1 11.16,3.1 11.16,4.91 9.16,4.91 9.16,3.1 ; 14.24,3.1 16.24,3.1 16.24,4.91 14.24,4.91 14.24,3.1
B.SilkS:
  circle w0.254: c15.24,0 r2.21
  circle w0.254: c-5.08,0 r2.21
Top Assembly:
  lines w0.254: -7.62,-3.8 17.78,-3.8 17.78,4.8 -7.62,4.8 -7.62,-3.8 ; -0.5,3.55 0,2.55 0.5,3.55 -0.5,3.55
  text "'.Designator'" at 1.033,3.26 h1
Bottom Assembly:
  circle w0.254: c15.24,0 r2.1
  circle w0.254: c-5.08,0 r2.1
Top Courtyard:
  lines w0.254: -8.13,-4.3 18.28,-4.3 18.28,5.3 -8.13,5.3 -8.13,-4.3
Bottom Courtyard:
  circle w0.254: c15.24,0 r2.6
  circle w0.254: c-5.08,0 r2.6
Top Designator:
  text ".Designator" at -2.543,0.197 h1.52